# Altium footprint library INFINEON PG-HSOF-8-1.PCBLIB: 1 footprints
Each footprint in its own frame and in the unit in brackets; x right, y up, seen from the top. Pads: shape width x height; smd on the part's side, far side on the other; paste and mask are expansions set on the pad; w line width, h text height; cw(c..) or ccw(c..) is an arc to the next point about the centre after c.
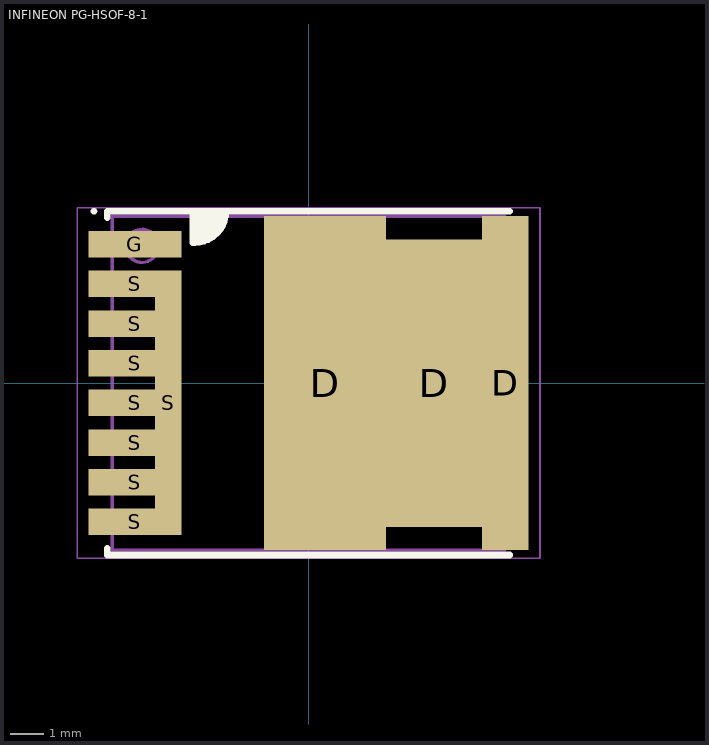
[diagram p0: the footprint, top view; thin cyan lines are the x and y axes]

## INFINEON PG-HSOF-8-1 [mm] "SON, 16-Leads, Body 9.90x11.67mm, Pitch 1.20mm, TIPC Medium Density"
height 2.4
pads (12):
  rect 3.7x10.1 smd: D(0.5,0)
  rect 2.9x8.7 smd: D(3.8,0)
  rect 1.4x10.1 smd: D(5.95,0)
  rect 2.8x0.8 smd: G(-5.25,4.2) S(-5.25,-4.2) S(-5.25,-3) S(-5.25,-1.8) S(-5.25,-0.6) S(-5.25,0.6) S(-5.25,1.8) S(-5.25,3)
  rect 0.8x8 smd mask-10: S(-4.25,-0.6)
Top Overlay:
  circle w0.1: c-6.49,5.2 r0.05
  region: -3.5,5.2 -3.5,4.3 -3.45,4.25 -3,4.25 -2.5,4.75 -2.5,5.2
  lines w0.2: -6.09,-5 -6.09,-5.2 6.09,-5.2 ; -6.09,5 -6.09,5.2 6.09,5.2 ; -3.5,5.2 -3.5,4.25 -3.45,4.25 ccw(c-3.45,5.2) -2.5,5.2
Mechanical 13:
  circle w0.1: c-5.04,4.15 r0.5
  lines w0.1: -5.94,-5.05 -5.94,5.05 5.94,5.05 5.94,-5.05 -5.94,-5.05
Mechanical 15:
  lines w0.05: -7,-5.3 -7,5.3 7,5.3 7,-5.3 -7,-5.3
  lines w0.1: -0.5,0 0.5,0 ; 0,-0.5 0,0.5
3D body "Infineon PG-HSOF-8-1.STEP": height 2.3, standoff 0, extent -5.84,-4.95 5.84,4.95